# EAGLE library part TXB0102 (library Public)
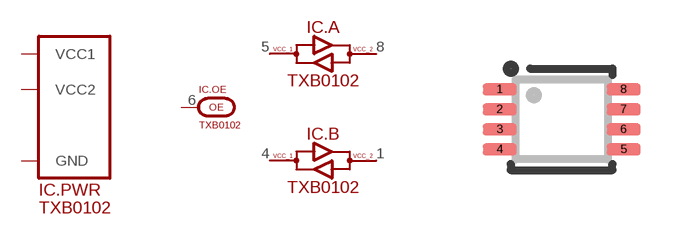
[diagram p162: symbol with the pads of VSSOP8; footprint VSSOP8]

Designator prefix IC; gates .PWR=SUPPLY_VCC1/VCC2/GND .OE=PIN_OE .A=LEVEL_SHIFTER_BIDIRECTIONAL .B=LEVEL_SHIFTER_BIDIRECTIONAL

## TXB0102  [VSSOP8]
1  .B:2
2  .PWR:GND
3  .PWR:VCC1
4  .B:1
5  .A:1
6  .OE:OE
7  .PWR:VCC2
8  .A:2

## Footprint VSSOP8 (pad centres in mm)
smd 0.85 x 0.3: 1 -1.55,0.75; 2 -1.55,0.25; 3 -1.55,-0.25; 4 -1.55,-0.75; 5 1.55,-0.75; 6 1.55,-0.25; 7 1.55,0.25; 8 1.55,0.75